# Altium integrated library MCP4921.IntLib: 1 symbol
Pins are listed as number, name and electrical type; pins without a type are passive.

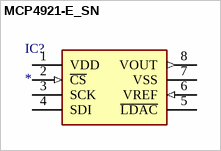
[diagram p0: symbol MCP4921-E_SN]

## MCP4921-E_SN
designator IC?
Integrated Circuit; Manufacturer_Name: Microchip; Manufacturer_Part_Number: MCP4921-E/SN; Description: Single 12-bit DAC SPI I/F,MCP4921-E/SN; Allied_Number: 70046155; Datasheet Link: http://ww1.microchip.com/downloads/en/DeviceDoc/22248a.pdf; Height: 1.75mm; Mouser Part Number: 579-MCP4921-E/SN; Mouser Price/Stock: https://www.mouser.com/Search/Refine.aspx?Keyword=579-MCP4921-E%2FSN; RS Part Number: 0402803P; RS Price/Stock: http://uk.rs-online.com/web/p/products/0402803P; Allied Price/Stock: http://www.alliedelec.com/microchip-technology-inc-mcp4921-e-sn/70046155/
footprint SOIC127P600X175-8N
pins: 1 VDD (power), 2 ~{CS} (in), 3 SCK, 4 SDI, 5 ~{LDAC}, 6 VREF (in), 7 VSS (power), 8 VOUT (out)